# EAGLE library part 74*50 (library dec-con)
4-2-3-2 input AND OR INVERTER gates
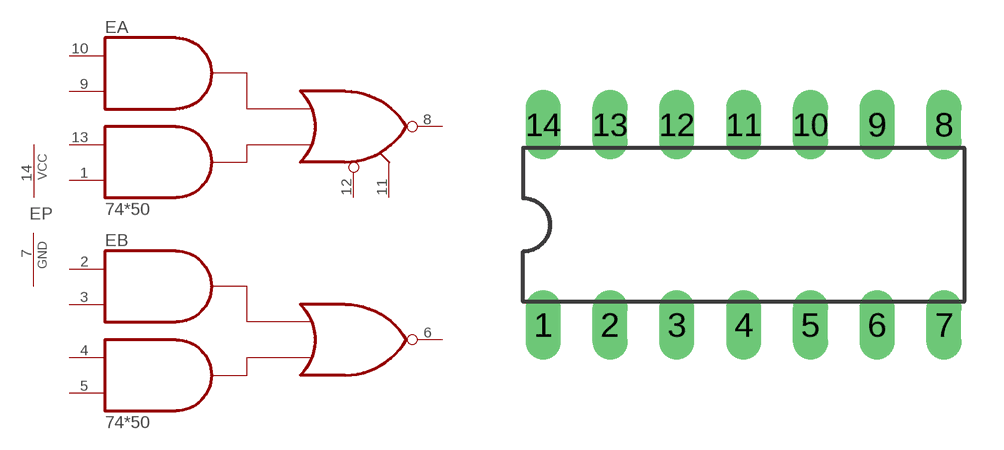
[diagram p81: symbol with the pads of DIL14; footprint DIL14]

Designator prefix E; gates P=PWRN A=7450A B=7450B

## 7450N, 74LS50N  [DIL14]
1  A:I4  in
2  B:I1  in
3  B:I2  in
4  B:I3  in
5  B:I4  in
6  B:O  out
7  P:GND  pwr
8  A:O  out
9  A:I2  in
10  A:I1  in
11  A:I6  pas
12  A:I5  pas
13  A:I3  in
14  P:VCC  pwr

## Footprint DIL14 (pad centres in mm)
Dual In Line Package
drill 0.813 long: 1 -7.62,-3.81; 2 -5.08,-3.81; 3 -2.54,-3.81; 4 0,-3.81; 5 2.54,-3.81; 6 5.08,-3.81; 7 7.62,-3.81; 8 7.62,3.81; 9 5.08,3.81; 10 2.54,3.81; 11 0,3.81; 12 -2.54,3.81; 13 -5.08,3.81; 14 -7.62,3.81